# Altium footprint library PcbLib1.PcbLib: 2 footprints
Each footprint in its own frame and in the unit in brackets; x right, y up, seen from the top. Pads: shape width x height; smd on the part's side, far side on the other; paste and mask are expansions set on the pad; w line width, h text height; cw(c..) or ccw(c..) is an arc to the next point about the centre after c.
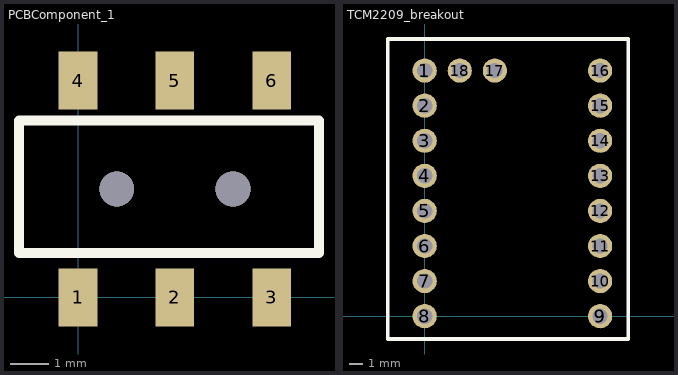
[diagram p0: the footprints below, top view; thin cyan lines are the x and y axes]

## PCBComponent_1 [mm]
pads (6):
  rect 1x1.5 smd: 1(0,0) 2(2.5,0) 3(5,0) 4(0,5.6) 5(2.5,5.6) 6(5,5.6)
via 4,2.8 diameter 0.9 hole 0.9
via 1,2.8 diameter 0.9 hole 0.9
Top Overlay:
  lines w0.254: -1.524,1.143 6.223,1.143 6.223,4.572 -1.524,4.572 -1.524,1.143
Top Designator:
  text ".Designator" at -5.118,2.292 h1.52

## TCM2209_breakout [mm]
pads (19):
  round 1.75 hole 1.1: 1(0,17.78) 2(0,15.24) 3(0,12.7) 4(0,10.16) 5(0,7.62) 6(0,5.08) 7(0,2.54) 8(0,0) 9(12.7,0) 9(12.7,0) 10(12.7,2.54) 11(12.7,5.08) 12(12.7,7.62) 13(12.7,10.16) 14(12.7,12.7) 15(12.7,15.24) 16(12.7,17.78) 17(5.08,17.78) 18(2.54,17.78)
Top Overlay:
  lines w0.254: -2.667,-1.651 -2.667,-1.27 -2.667,20.066 14.732,20.066 14.732,-1.651 -2.667,-1.651
Top Designator:
  text ".Designator" at -1.585,8.7 h1.52
3D body "BTT TMC2209-V1.2.STEP": height 16.75, standoff -5.38, extent -1.27,-1.27 13.97,19.05